# EAGLE library part 6120XX235221_612010235221 (library con-wurth)
WR-BHD 2.54 mm Male Angled Box Header High Temperature KIND PROPERTIES: Pitch 2.54 mm Gender:Male MATERIAL PROPERTIES: Insulator Material:PA6T Insulator Flammability Rating UL94 V-0 Insulator Color:Black Contact Material :Copper Alloy Contact Plating :Gold Contact Type: Stamped GENERAL INFORMATION: Operating Temperature:-40 °C up to +125 °C Compliance:RoHS Working Voltage: 250 V (AC) Withstanding Voltage:500 V (AC) Contact Resistance: 20 mΩ Insulation Resistance:1000 MΩ PACKAGING PROPERTIES Packaging :Tray <https://www.we-online.de/katalog/media/o32907v209%20Family_WR-BHD_6120xx235221.jpg> Details see: https://www.we-online.de/katalog/en/em/BHD_2_54_MALE_ANGLED_BOX_HEADER_HIGH_TEMPERATURE_6120XX235221 Updated by Yingchun,Shan 2019-10-30 2019 (C) Würth Elektronik
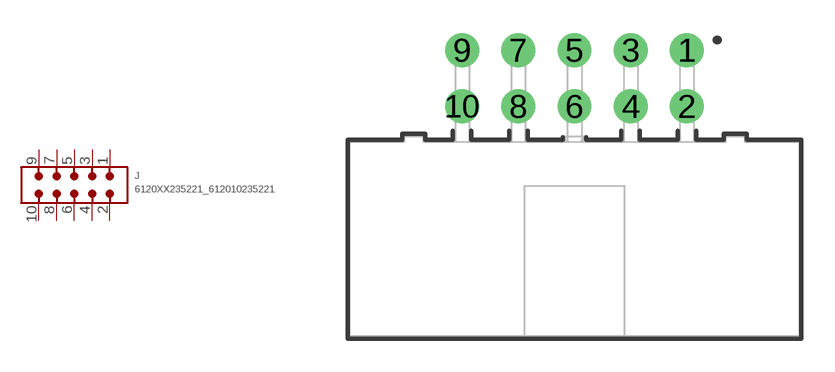
[diagram p101: symbol with the pads of 612010235221; footprint 612010235221]

Designator prefix J

## 6120XX235221_612010235221 (CONTACT-RESISTANCE: 20mOhm; DATASHEET-URL: https://www.we-online.com/redexpert/spec/612010235221?ae; GENDER: Male; IR: 3A; LENGTH: 20.3mm; MOUNT: THT; PACKAGING: Tray; PART-NUMBER: 612010235221; PINS: 10; PITCH: 2.54mm; TYPE: Angled; VALUE: 612010235221; WORKING-VOLTAGE: 250V(AC))  [612010235221]
1  1  pas
2  2  pas
3  3  pas
4  4  pas
5  5  pas
6  6  pas
7  7  pas
8  8  pas
9  9  pas
10  10  pas

## Footprint 612010235221 (pad centres in mm)
WR-BHD 2.54 mm Male Angled Box Header High Temperature,10 Pins
drill 1.02: 1 5.08,8.54; 2 5.08,6; 3 2.54,8.54; 4 2.54,6; 5 0,8.54; 6 0,6; 7 -2.54,8.54; 8 -2.54,6; 9 -5.08,8.54; 10 -5.08,6